# EAGLE library part K3-2245_DPDT_SIDE_SWITCH (library v12)
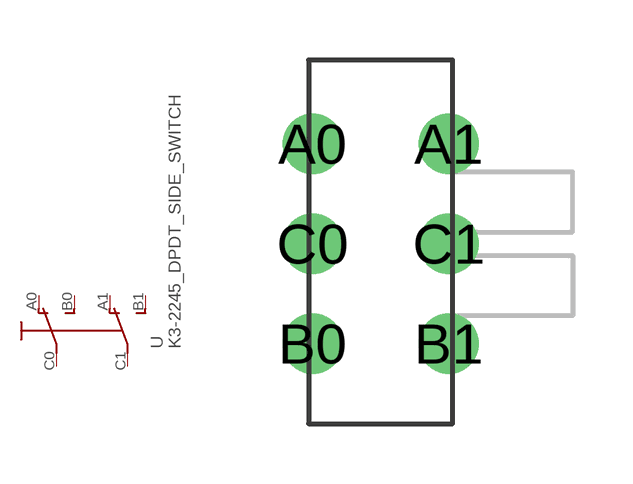
[diagram p8: symbol with the pads of K3-2245_DPDT_SWITCH; footprint K3-2245_DPDT_SWITCH]

Designator prefix -

## K3-2245_DPDT_SIDE_SWITCH  [K3-2245_DPDT_SWITCH]
A0  O  pas
A1  O1  pas
B0  S  pas
B1  S1  pas
C0  P  pas
C1  P1  pas

## Footprint K3-2245_DPDT_SWITCH (pad centres in mm)
drill 1: A0 0,5; A1 3.4,5; B0 0,0; B1 3.4,0; C0 0,2.5; C1 3.4,2.5